# EAGLE library part 74HC30D (library NXP_By_element14_Batch_1)
8-input NAND gate
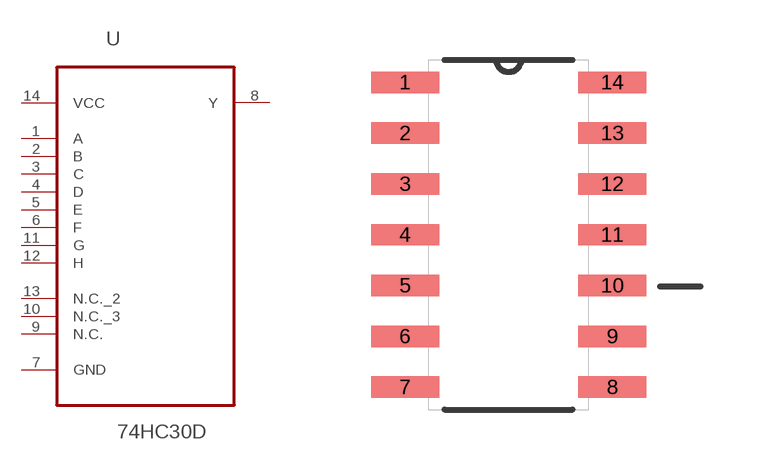
[diagram p70: symbol with the pads of SOIC127P600X175-14N; footprint SOIC127P600X175-14N]

Designator prefix U

## 74HC30D (MPN: 74HC30D; OC_FARNELL: 1201251; OC_NEWARK: 25M5235; P1I: o; PACKAGE: SOIC-14; SUPPLIER: NXP)  [SOIC127P600X175-14N]
1  A  in
2  B  in
3  C  in
4  D  in
5  E  in
6  F  in
7  GND  pas
8  Y  out
9  N.C.  nc
10  N.C._3  nc
11  G  in
12  H  in
13  N.C._2  nc
14  VCC  pwr

## Footprint SOIC127P600X175-14N (pad centres in mm)
smd 1.702 x 0.533: 1 -2.591,3.81; 2 -2.591,2.54; 3 -2.591,1.27; 4 -2.591,0; 5 -2.591,-1.27; 6 -2.591,-2.54; 7 -2.591,-3.81; 8 2.591,-3.81; 9 2.591,-2.54; 10 2.591,-1.27; 11 2.591,0; 12 2.591,1.27; 13 2.591,2.54; 14 2.591,3.81